# EAGLE library part MI0283QT-11 (library MI0283QT-11)
LCD MODULE SPECIFICATION Model : MI0283QT-11
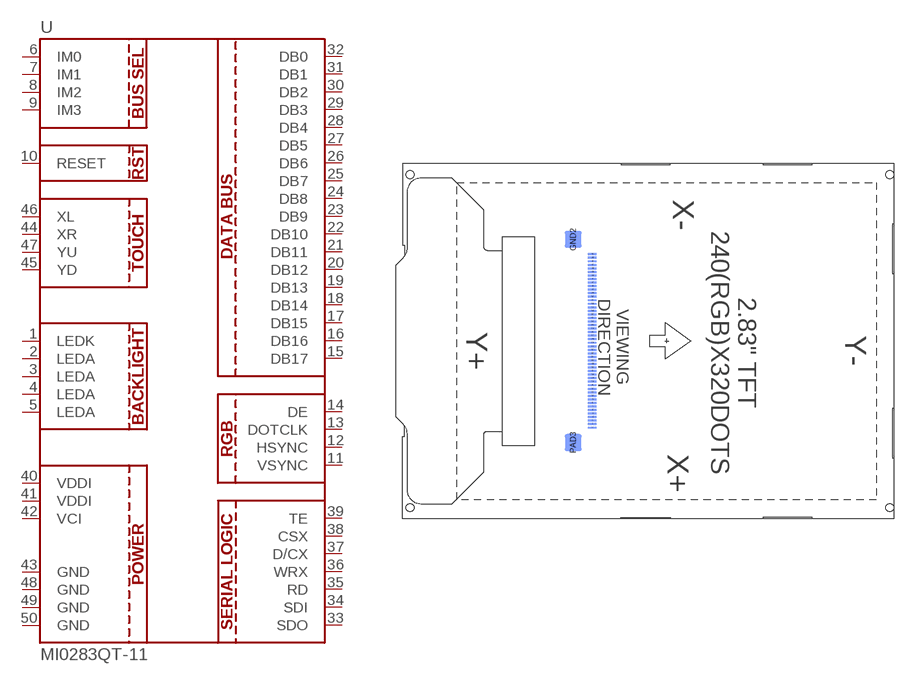
[diagram p0: symbol with the pads of MI0283QT-11; footprint MI0283QT-11]

Designator prefix -

## MI0283QT-11  [MI0283QT-11]
1  LEDK
2  LEDA
3  LEDA
4  LEDA
5  LEDA
6  IM0
7  IM1
8  IM2
9  IM3
10  RESET
11  VSYNC
12  HSYNC
13  DOTCLK
14  DE
15  DB17
16  DB16
17  DB15
18  DB14
19  DB13
20  DB12
21  DB11
22  DB10
23  DB9
24  DB8
25  DB7
26  DB6
27  DB5
28  DB4
29  DB3
30  DB2
31  DB1
32  DB0
33  SDO
34  SDI
35  RD
36  WRX
37  D/CX
38  CSX
39  TE
40  VDDI
41  VDDI
42  VCI
43  GND
44  XR
45  YD
46  XL
47  YU
48  GND
49  GND
50  GND

## Footprint MI0283QT-11 (pad centres in mm)
smd 1.2 x 0.275 bottom: 1 -10.525,-12.268; 2 -10.525,-11.768; 3 -10.525,-11.268; 4 -10.525,-10.768; 5 -10.525,-10.268; 6 -10.525,-9.768; 7 -10.525,-9.268; 8 -10.525,-8.768; 9 -10.525,-8.268; 10 -10.525,-7.768; 11 -10.525,-7.268; 12 -10.525,-6.768; 13 -10.525,-6.268; 14 -10.525,-5.768; 15 -10.525,-5.268; 16 -10.525,-4.768; 17 -10.525,-4.268; 18 -10.525,-3.768; 19 -10.525,-3.268; 20 -10.525,-2.768; 21 -10.525,-2.268; 22 -10.525,-1.768; 23 -10.525,-1.268; 24 -10.525,-0.768; 25 -10.525,-0.268; 26 -10.525,0.232; 27 -10.525,0.732; 28 -10.525,1.232; 29 -10.525,1.732; 30 -10.525,2.232; 31 -10.525,2.732; 32 -10.525,3.232; 33 -10.525,3.732; 34 -10.525,4.232; 35 -10.525,4.732; 36 -10.525,5.232; 37 -10.525,5.732; 38 -10.525,6.232; 39 -10.525,6.732; 40 -10.525,7.232; 41 -10.525,7.732; 42 -10.525,8.232; 43 -10.525,8.732; 44 -10.525,9.232; 45 -10.525,9.732; 46 -10.525,10.232; 47 -10.525,10.732; 48 -10.525,11.232; 49 -10.525,11.732; 50 -10.525,12.232
smd 2.4 x 2.4 bottom: GND2 -13.225,14.332; PAD3 -13.225,-14.368
hole 1.1 at -36.28,-23.57
hole 1.1 at -36.28,23.47
hole 1.1 at 31.47,-23.57
hole 1.1 at 31.47,23.47